# EAGLE library part CH340E (library CH340E)
WCH.CN/CH340E See DataSheet： wch.cn <http://www.wch.cn/downloads/CH340DS1_PDF.html>
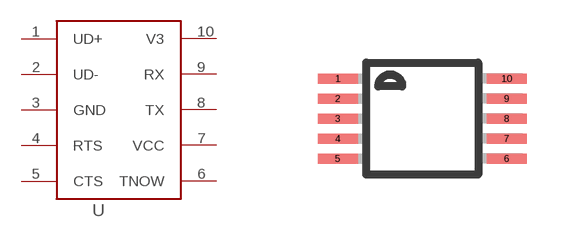
[diagram p0: symbol with the pads of MSOP10; footprint MSOP10]

Designator prefix U

## CH340ESMD  [MSOP10]
1  UD+
2  UD-
3  GND  pwr
4  RTS  out
5  CTS  in
6  TNOW  out
7  VCC  pwr
8  TX  out
9  RX  in
10  V3  pwr

## Footprint MSOP10 (pad centres in mm)
10-Lead Mini Small Outline Package [MSOP] (RM-10) Source: http://www.analog.com/UploadedFiles/Data_Sheets/35641221898805SSM2167_b.pdf COMPLIANT TO JEDEC STANDARDS MO-187BA
smd 1 x 0.25: 1 -2.113,1; 2 -2.113,0.5; 3 -2.113,0; 4 -2.113,-0.5; 5 -2.113,-1; 6 2.113,-1; 7 2.113,-0.5; 8 2.113,0; 9 2.113,0.5; 10 2.113,1